# EAGLE library part PINHD-2X04 (library ConV3)
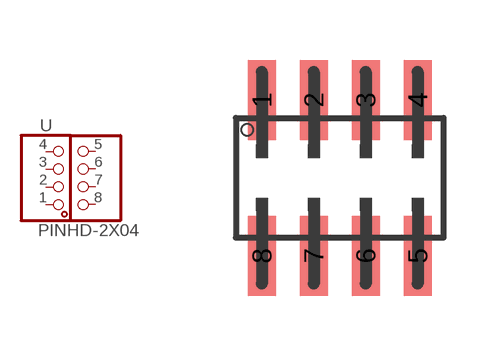
[diagram p1: symbol with the pads of 2X4_SMD_1.3MM_MALE; footprint 2X4_SMD_1.3MM_MALE]

Designator prefix -

## PINHD-2X04-1.3MM_MALE  [2X4_SMD_1.3MM_MALE]
1  1  pas
2  2  pas
3  3  pas
4  4  pas
5  5  pas
6  6  pas
7  7  pas
8  8  pas

## Footprint 2X4_SMD_1.3MM_MALE (pad centres in mm)
smd 0.7 x 2: 1 -2,1.95; 2 -0.7,1.95; 3 0.6,1.95; 4 1.9,1.95; 5 1.9,-1.95; 6 0.6,-1.95; 7 -0.7,-1.95; 8 -2,-1.95